# Altium footprint library CUI_TBL004V-508-02BE-2GY.PcbLib: 1 footprints
Each footprint in its own frame and in the unit in brackets; x right, y up, seen from the top. Pads: shape width x height; smd on the part's side, far side on the other; paste and mask are expansions set on the pad; w line width, h text height; cw(c..) or ccw(c..) is an arc to the next point about the centre after c.
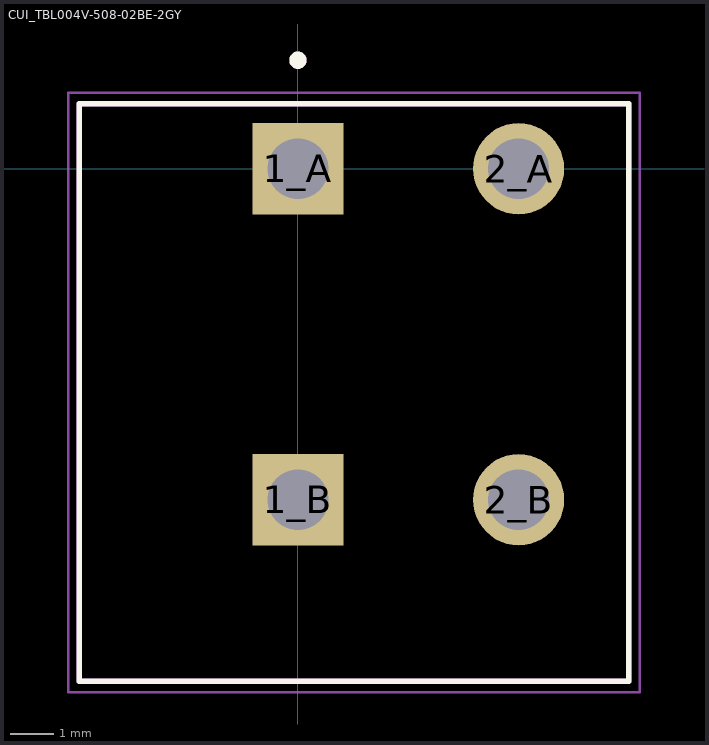
[diagram p0: the footprint, top view; thin cyan lines are the x and y axes]

## CUI_TBL004V-508-02BE-2GY [mm]
pads (4):
  rect 2.1x2.1 hole 1.4: 1_A(0,0) 1_B(0,-7.62)
  round 2.1 hole 1.4: 2_A(5.08,0) 2_B(5.08,-7.62)
Top Overlay:
  circle w0.2: c0,2.5 r0.1
  lines w0.127: -5.04,-11.8 -5.04,1.5 7.62,1.5 7.62,-11.8 -5.04,-11.8
Mechanical 13:
  circle w0.2: c0,2.5 r0.1
  lines w0.127: -5.04,-11.8 -5.04,1.5 7.62,1.5 7.62,-11.8 -5.04,-11.8
Mechanical 15:
  lines w0.05: -5.29,-12.05 7.87,-12.05 7.87,1.75 -5.29,1.75 -5.29,-12.05